# Altium schematic symbol library 2.2uH_inductor_0805_Components - 20.03.22 - 19.57.SchLib: 1 symbol
Pins are listed as number, name and electrical type; pins without a type are passive.

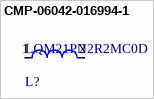
[diagram p0: symbol CMP-06042-016994-1]

## CMP-06042-016994-1
designator L?, comment LQM21PN2R2MC0D
Multilayer Type Inductor for Power Lines, 0805 (2012), 2.2μH, 20%, 0.425Ω, 0.6A; Test Frequency: 1MHz; Inductance: 2.2uH; Max DC Current: 600mA; Core Material: Ferrite; DC Resistance (DCR): 340mR; Shielding: Shielded; Self Resonant Frequency: 50MHz; RoHS Compliant: Yes; Height: 0.5mm; Mount: Surface Mount; REACH SVHC: No SVHC; Width: 0.049inch; Military Standard: Not; Max Operating Temperature: 125°C; Lead Free: Lead Free; Tolerance: 20%; Series: LQM21PN_CO; Case Code (Imperial): 0805; Case Code (Metric): 2012; Length: 2mm; Package Quantity: 4000; Radiation Hardening: No; Termination: SMD/SMT; Inductance Tolerance: 20%; Rated Current-Max: 600mA; Current Rating: 600mA; Min Operating Temperature: -55°C; Case/Package: 0805; Height - Seated (Max): 0.022inch; Depth: 1.45mm; Packaging: Tape and Reel; DC Current: 600mA
footprint FP-LQM21PN_C0-IPC_C
footprint FP-LQM21PN_C0-MFG
footprint FP-LQM21PN_C0-IPC_A
footprint FP-LQM21PN_C0-IPC_B
pins: 1, 2